# Altium footprint library Jumpers.PcbLib: 22 footprints (part 2 of 2)
Each footprint in its own frame and in the unit in brackets; x right, y up, seen from the top. Pads: shape width x height; smd on the part's side, far side on the other; paste and mask are expansions set on the pad; w line width, h text height; cw(c..) or ccw(c..) is an arc to the next point about the centre after c.
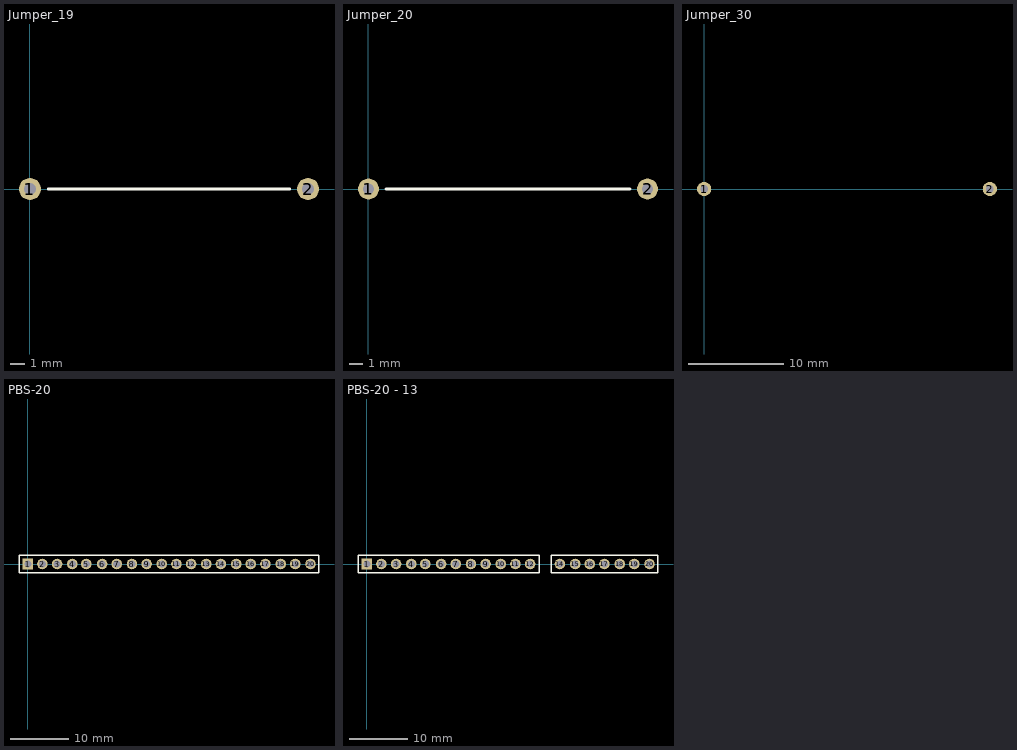
[diagram p1: the footprints below, top view; thin cyan lines are the x and y axes]

## Jumper_19 [mm]
height 0.5
pads (2):
  round 1.5 hole 0.8: 1(0,0) 2(19,0)
Top Overlay:
  lines w0.2: 1.25,0 17.75,0

## Jumper_20 [mm]
height 0.5
pads (2):
  round 1.5 hole 0.8: 1(0,0) 2(20,0)
Top Overlay:
  lines w0.2: 1.25,0 18.75,0

## Jumper_30 [mm] "Перемычка 30 мм отверстия"
height 0.5
pads (2):
  round 1.5 hole 0.8: 1(0,0) 2(30,0)

## PBS-20 [mm]
pads (20):
  rect 1.8x1.8 hole 1.2: 1(0,0)
  round 1.8 hole 1.2: 2(2.5,0) 3(5,0) 4(7.6,0) 5(10,0) 6(12.7,0) 7(15.2,0) 8(17.8,0) 9(20.3,0) 10(22.9,0) 11(25.4,0) 12(27.9,0) 13(30.5,0) 14(33,0) 15(35.6,0) 16(38.1,0) 17(40.6,0) 18(43.2,0) 19(45.7,0) 20(48.3,0)
Top Overlay:
  lines w0.254: -1.375,-1.5 49.75,-1.5 49.75,1.5 -1.5,1.5 -1.5,-1.5 -1.25,-1.5
3D body "User Library-PBS-05.STEP": height 8.4, standoff -3.2, extent -1.27,-1.27 11.43,1.27
3D body "User Library-PBS-05.STEP": height 8.4, standoff -3.2, extent 11.43,-1.27 24.13,1.27
3D body "User Library-PBS-05.STEP": height 8.4, standoff -3.2, extent 24.13,-1.27 36.83,1.27
3D body "User Library-PBS-05.STEP": height 8.4, standoff -3.2, extent 36.83,-1.27 49.53,1.27

## PBS-20 - 13 [mm]
pads (19):
  rect 1.8x1.8 hole 1.2: 1(0,0)
  round 1.8 hole 1.2: 2(2.5,0) 3(5,0) 4(7.6,0) 5(10,0) 6(12.7,0) 7(15.2,0) 8(17.8,0) 9(20.3,0) 10(22.9,0) 11(25.4,0) 12(27.9,0) 14(33,0) 15(35.6,0) 16(38.1,0) 17(40.6,0) 18(43.2,0) 19(45.7,0) 20(48.3,0)
Top Overlay:
  lines w0.254: -1.375,-1.5 29.5,-1.5 29.5,1.5 -1.5,1.5 -1.5,-1.5 -1.25,-1.5 ; 31.5,-1.5 49.75,-1.5 49.75,1.5 31.5,1.5 31.5,-1.5
3D body "User Library-PBS-02.STEP": height 8.4, standoff -3.2, extent 31.75,-1.27 36.83,1.27
3D body "User Library-PBS-02.STEP": height 8.4, standoff -3.2, extent 24.13,-1.27 29.21,1.27
3D body "User Library-PBS-05.STEP": height 8.4, standoff -3.2, extent -1.27,-1.27 11.43,1.27
3D body "User Library-PBS-05.STEP": height 8.4, standoff -3.2, extent 11.43,-1.27 24.13,1.27
3D body "User Library-PBS-05.STEP": height 8.4, standoff -3.2, extent 36.83,-1.27 49.53,1.27

## PCBComponent_1 [mm]